# Altium footprint library footprints.PcbLib: 21 footprints (part 1 of 2)
Each footprint in its own frame and in the unit in brackets; x right, y up, seen from the top. Pads: shape width x height; smd on the part's side, far side on the other; paste and mask are expansions set on the pad; w line width, h text height; cw(c..) or ccw(c..) is an arc to the next point about the centre after c.
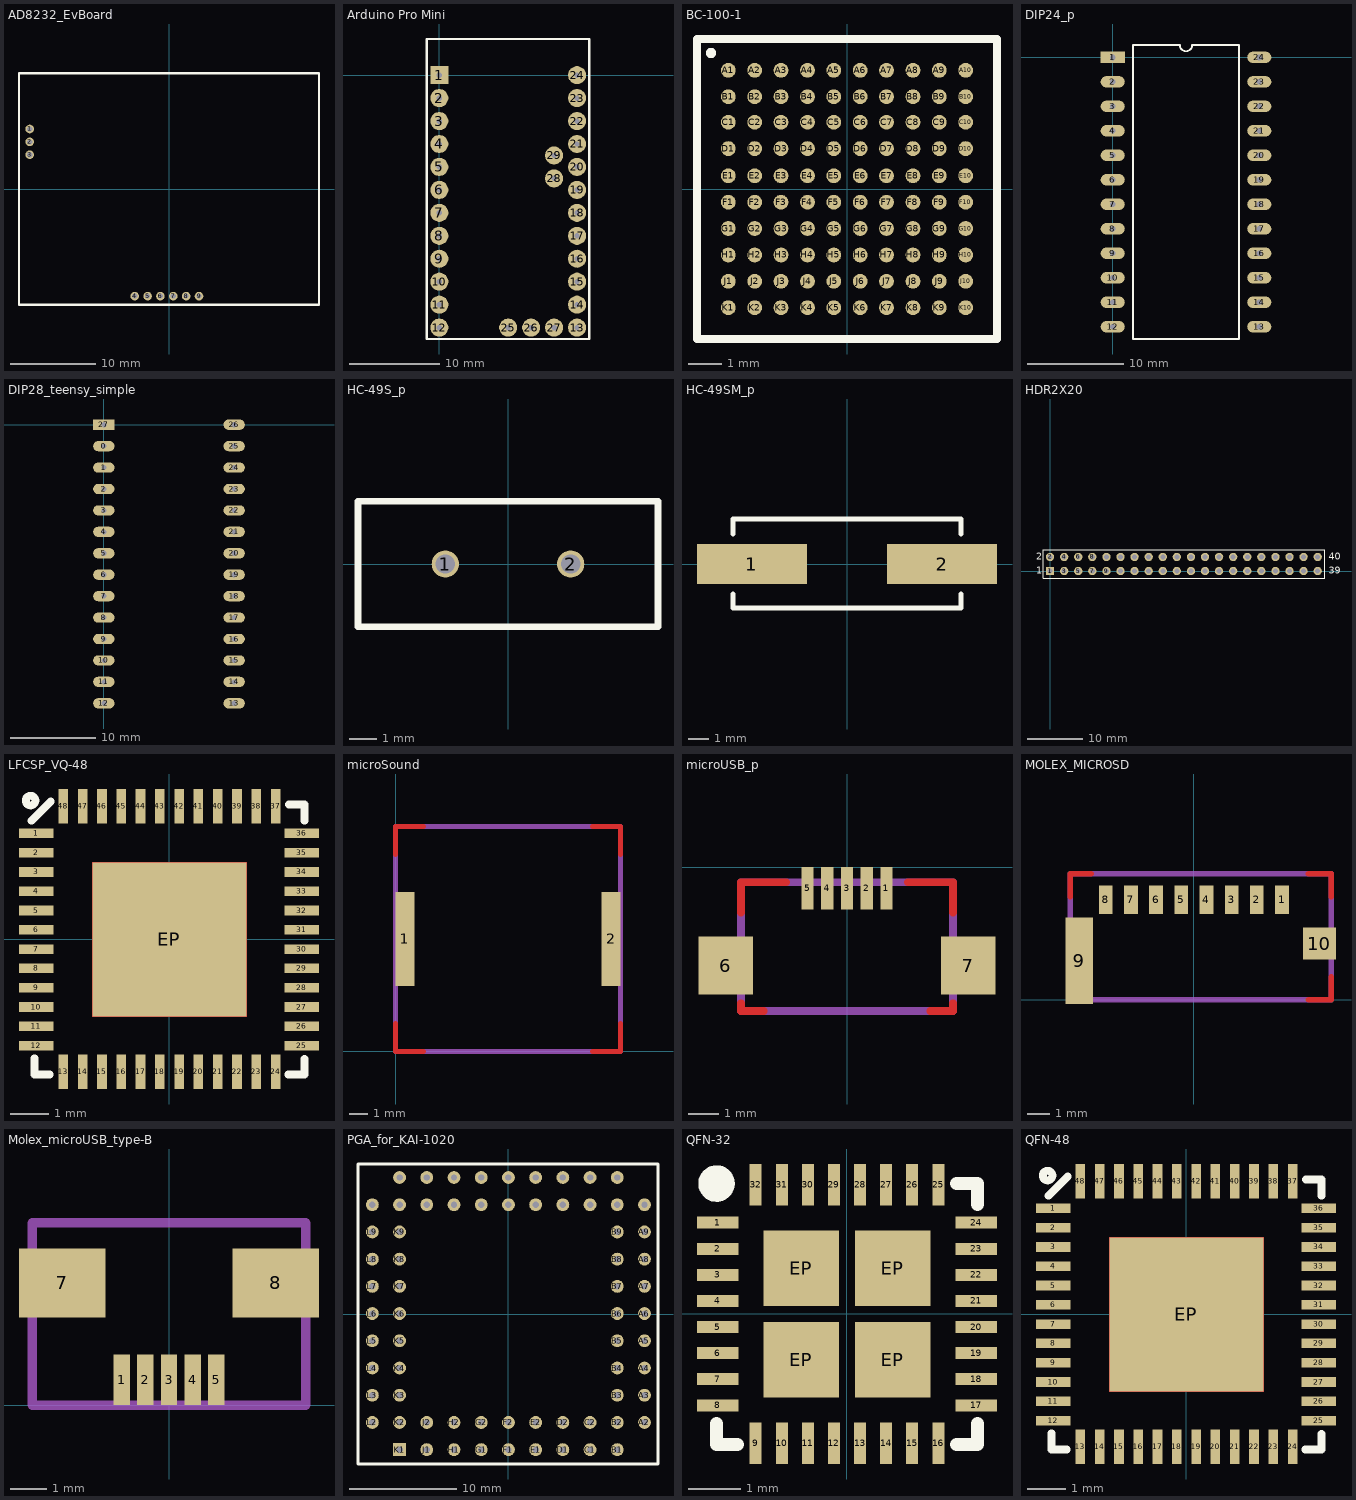
[diagram p0: the footprints below, top view; thin cyan lines are the x and y axes]

## AD8232_EvBoard [mm]
pads (9):
  round 1 hole 0.6: 1(-16.25,7) 2(-16.25,5.5) 3(-16.25,4) 4(-4,-12.5) 5(-2.5,-12.5) 6(-1,-12.5) 7(0.5,-12.5) 8(2,-12.5) 9(3.5,-12.5)
Top Overlay:
  lines w0.254: -17.5,-13.5 -17.5,13.5 17.5,13.5 17.5,-13.5 -17.5,-13.5
3D body: height 2, standoff 1, extent -17.5,-13.5 17.5,13.5

## Arduino Pro Mini [mm]
pads (29):
  rect 2x2 hole 0.6: 1(0,0)
  round 2 hole 0.6: 2(0,-2.54) 3(0,-5.08) 4(0,-7.62) 5(0,-10.16) 6(0,-12.7) 7(0,-15.24) 8(0,-17.78) 9(0,-20.32) 10(0,-22.86) 11(0,-25.4) 12(0,-27.94) 13(15.24,-27.94) 14(15.24,-25.4) 15(15.24,-22.86) 16(15.24,-20.32) 17(15.24,-17.78) 18(15.24,-15.24) 19(15.24,-12.7) 20(15.24,-10.16) 21(15.24,-7.62) 22(15.24,-5.08) 23(15.24,-2.54) 24(15.24,0) 25(7.62,-27.94) 26(10.16,-27.94) 27(12.7,-27.94) 28(12.7,-11.43) 29(12.7,-8.89)
Top Overlay:
  lines w0.254: 15.2,0.04 15.24,0 ; -1.4,-29.2 16.6,-29.2 16.6,4 -1.4,4 -1.4,-29.2

## BC-100-1 [mm] "9.1x9.1mm 0.65mm"
height 0.65
pads (100):
  round 0.45 smd: A1(-3.6,3.6) A2(-2.8,3.6) A3(-2,3.6) A4(-1.2,3.6) A5(-0.4,3.6) A6(0.4,3.6) A7(1.2,3.6) A8(2,3.6) A9(2.8,3.6) A10(3.6,3.6) B1(-3.6,2.8) B2(-2.8,2.8) B3(-2,2.8) B4(-1.2,2.8) B5(-0.4,2.8) B6(0.4,2.8) B7(1.2,2.8) B8(2,2.8) B9(2.8,2.8) B10(3.6,2.8) C1(-3.6,2.025) C2(-2.8,2.025) C3(-2,2.025) C4(-1.2,2.025) C5(-0.4,2.025) C6(0.4,2.025) C7(1.2,2.025) C8(2,2.025) C9(2.8,2.025) C10(3.6,2.025) D1(-3.6,1.225) D2(-2.8,1.225) D3(-2,1.225) D4(-1.2,1.225) D5(-0.4,1.225) D6(0.4,1.225) D7(1.2,1.225) D8(2,1.225) D9(2.8,1.225) D10(3.6,1.225) E1(-3.6,0.4) E2(-2.8,0.4) E3(-2,0.4) E4(-1.2,0.4) E5(-0.4,0.4) E6(0.4,0.4) E7(1.2,0.4) E8(2,0.4) E9(2.8,0.4) E10(3.6,0.4) F1(-3.6,-0.4) F2(-2.8,-0.4) F3(-2,-0.4) F4(-1.2,-0.4) F5(-0.4,-0.4) F6(0.4,-0.4) F7(1.2,-0.4) F8(2,-0.4) F9(2.8,-0.4) F10(3.6,-0.4) G1(-3.6,-1.2) G2(-2.8,-1.2) G3(-2,-1.2) G4(-1.2,-1.2) G5(-0.4,-1.2) G6(0.4,-1.2) G7(1.2,-1.2) G8(2,-1.2) G9(2.8,-1.2) G10(3.6,-1.2) H1(-3.6,-2) H2(-2.8,-2) H3(-2,-2) H4(-1.2,-2) H5(-0.4,-2) H6(0.4,-2) H7(1.2,-2) H8(2,-2) H9(2.8,-2) H10(3.6,-2) J1(-3.6,-2.8) J2(-2.8,-2.8) J3(-2,-2.8) J4(-1.2,-2.8) J5(-0.4,-2.8) J6(0.4,-2.8) J7(1.2,-2.8) J8(2,-2.8) J9(2.8,-2.8) J10(3.6,-2.8) K1(-3.6,-3.6) K2(-2.8,-3.6) K3(-2,-3.6) K4(-1.2,-3.6) K5(-0.4,-3.6) K6(0.4,-3.6) K7(1.2,-3.6) K8(2,-3.6) K9(2.8,-3.6) K10(3.6,-3.6)
Top Overlay:
  circle w0.2: c-4.125,4.125 r0.056
  lines w0.254: -4.55,-4.55 -4.55,4.55 4.55,4.55 4.55,-4.55 -4.55,-4.55
3D body: height 0.8, standoff 0, extent -4.55,-4.55 4.55,4.55

## DIP24_p [mm]
pads (24):
  rect 2.5x1.2 hole 0.6: 1(0,0)
  oval 2.5x1.2 hole 0.6: 2(0,-2.54) 3(0,-5.08) 4(0,-7.62) 5(0,-10.16) 6(0,-12.7) 7(0,-15.24) 8(0,-17.78) 9(0,-20.32) 10(0,-22.86) 11(0,-25.4) 12(0,-27.94) 13(15.2,-27.94) 14(15.2,-25.4) 15(15.2,-22.86) 16(15.2,-20.32) 17(15.2,-17.78) 18(15.2,-15.24) 19(15.2,-12.7) 20(15.2,-10.16) 21(15.2,-7.62) 22(15.2,-5.08) 23(15.2,-2.54) 24(15.2,0)
Top Overlay:
  lines w0.2: 2.085,-29.21 13.115,-29.21 13.115,1.27 8.235,1.27 cw(c7.6,1.27) 6.965,1.27 2.085,1.27 2.085,-29.21

## DIP28_teensy_simple [mm]
pads (28):
  oval 2.5x1.2 hole 0.6: 0(0,-2.5) 1(0,-5) 2(0,-7.5) 3(0,-10) 4(0,-12.5) 5(0,-15) 6(0,-17.5) 7(0,-20) 8(0,-22.5) 9(0,-25) 10(0,-27.5) 11(0,-30) 12(0,-32.5) 13(15.2,-32.5) 14(15.2,-30) 15(15.2,-27.5) 16(15.2,-25) 17(15.2,-22.5) 18(15.2,-20) 19(15.2,-17.5) 20(15.2,-15) 21(15.2,-12.5) 22(15.2,-10) 23(15.2,-7.5) 24(15.2,-5) 25(15.2,-2.5) 26(15.2,0)
  rect 2.5x1.2 hole 0.6: 27(0,0)
3D body: height 2, standoff 1, extent -0.75,-33.75 15.75,1.25

## HC-49S_p [mm]
height 4.2
pads (2):
  round 1 hole 0.7: 1(-2.3,0) 2(2.3,0)
Top Overlay:
  lines w0.254: -5.5,-2.3 -5.5,2.3 0,2.3 5.5,2.3 5.5,-2.3 0,-2.3 -5.5,-2.3

## HC-49SM_p [mm]
height 5
pads (2):
  rect 5.5x2 smd: 1(-4.75,0) 2(4.75,0)
Top Overlay:
  lines w0.254: -5.7,-1.5 -5.7,-2.2 5.7,-2.2 5.7,-1.5 ; -5.7,1.5 -5.7,2.25 5.7,2.25 5.7,1.5
3D body "smdcrystal.STEP": height 3.85, standoff 0, extent -6.79,-2.375 6.79,2.425

## HDR2X20 [mm] "Connector; Header; 20x2 Position"
pads (40):
  rect 1.5x1.5 hole 0.9: 1(0,0)
  round 1.5 hole 0.9: 2(0,2.54) 3(2.54,0) 4(2.54,2.54) 5(5.08,0) 6(5.08,2.54) 7(7.62,0) 8(7.62,2.54) 9(10.16,0) 10(10.16,2.54) 11(12.7,0) 12(12.7,2.54) 13(15.24,0) 14(15.24,2.54) 15(17.78,0) 16(17.78,2.54) 17(20.32,0) 18(20.32,2.54) 19(22.86,0) 20(22.86,2.54) 21(25.4,0) 22(25.4,2.54) 23(27.94,0) 24(27.94,2.54) 25(30.48,0) 26(30.48,2.54) 27(33.02,0) 28(33.02,2.54) 29(35.56,0) 30(35.56,2.54) 31(38.1,0) 32(38.1,2.54) 33(40.64,0) 34(40.64,2.54) 35(43.18,0) 36(43.18,2.54) 37(45.72,0) 38(45.72,2.54) 39(48.26,0) 40(48.26,2.54)
Top Overlay:
  lines w0.2: -1.27,-1.27 49.53,-1.27 49.53,3.81 -1.27,3.81 -1.27,-1.27
  text "1" at -2.54,-0.508 h1.27
  text "2" at -2.54,2.032 h1.27
  text "40" at 50.292,2.032 h1.27
  text "39" at 50.292,-0.508 h1.27

## LFCSP_VQ-48 [mm]
height 1
pads (49):
  rect 0.9x0.25 smd: 1(-3.45,2.75) 2(-3.45,2.25) 3(-3.45,1.75) 4(-3.45,1.25) 5(-3.45,0.75) 6(-3.45,0.25) 7(-3.45,-0.25) 8(-3.45,-0.75) 9(-3.45,-1.25) 10(-3.45,-1.75) 11(-3.45,-2.25) 12(-3.45,-2.75) 25(3.425,-2.75) 26(3.425,-2.25) 27(3.425,-1.75) 28(3.425,-1.25) 29(3.425,-0.75) 30(3.425,-0.25) 31(3.425,0.25) 32(3.425,0.75) 33(3.425,1.25) 34(3.425,1.75) 35(3.425,2.25) 36(3.425,2.75)
  rect 0.25x0.9 smd: 13(-2.75,-3.425) 14(-2.25,-3.425) 15(-1.75,-3.425) 16(-1.25,-3.425) 17(-0.75,-3.425) 18(-0.25,-3.425) 19(0.25,-3.425) 20(0.75,-3.425) 21(1.25,-3.425) 22(1.75,-3.425) 23(2.25,-3.425) 24(2.75,-3.425) 37(2.75,3.45) 38(2.25,3.45) 39(1.75,3.45) 40(1.25,3.45) 41(0.75,3.45) 42(0.25,3.45) 43(-0.25,3.45) 44(-0.75,3.45) 45(-1.25,3.45) 46(-1.75,3.45) 47(-2.25,3.45) 48(-2.75,3.45)
  rect 4x4 smd paste+0 mask-2: EP(0,0)
Top Layer:
  region: -2,2 -2,-2 2,-2 2,2
Top Overlay:
  circle w0.2: c-3.6,3.6 r0.125
  lines w0.2: -3.575,3.075 -3.075,3.575 ; -3.5,-3.075 -3.5,-3.5 -3.1,-3.5 ; 3.075,-3.5 3.5,-3.5 3.5,-3.1 ; 3.1,3.5 3.5,3.5 3.5,3.075
Top Solder:
  region: 2.16,-2.16 2.16,-1.23 1.23,-1.23 1.23,-2.16
  region: 1.03,-2.16 1.03,-1.23 0.1,-1.23 0.1,-2.16
  region: -0.1,-2.16 -0.1,-1.23 -1.03,-1.23 -1.03,-2.16
  region: -1.23,-2.16 -1.23,-1.23 -2.16,-1.23 -2.16,-2.16
  region: 2.16,-1.03 2.16,-0.1 1.23,-0.1 1.23,-1.03
  region: 1.03,-1.03 1.03,-0.1 0.1,-0.1 0.1,-1.03
  region: -0.1,-1.03 -0.1,-0.1 -1.03,-0.1 -1.03,-1.03
  region: -1.23,-1.03 -1.23,-0.1 -2.16,-0.1 -2.16,-1.03
  region: 2.16,0.1 2.16,1.03 1.23,1.03 1.23,0.1
  region: 1.03,0.1 1.03,1.03 0.1,1.03 0.1,0.1
  region: -0.1,0.1 -0.1,1.03 -1.03,1.03 -1.03,0.1
  region: -1.23,0.1 -1.23,1.03 -2.16,1.03 -2.16,0.1
  region: 2.16,1.23 2.16,2.16 1.23,2.16 1.23,1.23
  region: 1.03,1.23 1.03,2.16 0.1,2.16 0.1,1.23
  region: -0.1,1.23 -0.1,2.16 -1.03,2.16 -1.03,1.23
  region: -1.23,2.16 -2.16,2.16 -2.16,1.23 -1.23,1.23
3D body "User Library-QFN48_7x7.STEP": height 0.78, standoff -0.02, extent -3.5,-3.51 3.52,3.51

## microSound [mm]
height 3
pads (2):
  rect 1x5 smd paste+0 mask+0: 1(0.5,6) 2(11.5,6)
Top Layer:
  lines w0.254: 0,1.5 0,0 1.5,0 ; 0,10.5 0,12 1.5,12 ; 10.5,0 12,0 12,1.5 ; 10.5,12 12,12 12,10.5
Mechanical 1:
  lines w0.254: 0,0 12,0 12,12 0,12 0,0

## microUSB_p [mm]
pads (7):
  rect 0.4x1.4 smd paste+0.02 mask+0.02: 1(1.3,-0.7) 2(0.65,-0.7) 3(0,-0.7) 4(-0.65,-0.7) 5(-1.3,-0.7)
  rect 1.8x1.9 smd paste+0.02 mask+0.02: 6(-4,-3.25) 7(4,-3.25)
Top Layer:
  lines w0.254: -3.5,-4.5 -3.5,-4.75 -2.75,-4.75 ; -3.5,-1.5 -3.5,-0.5 -2,-0.5 ; 2,-0.5 3.5,-0.5 3.5,-1.5 ; 2.75,-4.75 3.5,-4.75 3.5,-4.5
Mechanical 1:
  lines w0.254: -3.5,-4.75 3.5,-4.75 3.5,-0.5 -3.5,-0.5 -3.5,-4.75

## MOLEX_MICROSD [mm]
pads (10):
  rect 0.6x1.25 smd paste+0 mask+0: 1(3.85,4.37) 2(2.75,4.37) 3(1.65,4.37) 4(0.55,4.37) 5(-0.55,4.37) 6(-1.65,4.37) 7(-2.75,4.37) 8(-3.85,4.37)
  rect 1.2x3.79 smd paste+0 mask+0: 9(-5,1.7)
  rect 1.45x1.4 smd paste+0 mask+0: 10(5.48,2.45)
Top Layer:
  lines w0.254: -5.4,4.5 -5.4,5.5 -4.5,5.5 ; 5,0 6,0 6,1 ; 5,5.5 6,5.5 6,4.5
Mechanical 1:
  lines w0.254: -5.4,0 -5.4,5.5 6,5.5 6,0 0,0 -5.4,0

## Molex_microUSB_type-B [mm]
pads (7):
  rect 0.45x1.38 smd paste+0 mask+0: 1(-1.3,0.7) 2(-0.65,0.7) 3(0,0.7) 4(0.65,0.7) 5(1.3,0.7)
  rect 2.375x1.9 smd paste+0 mask+0: 7(-2.925,3.35) 8(2.925,3.35)
Mechanical 1:
  lines w0.254: -3.75,0 -3.75,5 3.75,5 3.75,0 -3.75,0

## PGA_for_KAI-1020 [mm]
pads (68):
  round 1.2 hole 0.6: A2(12.74,-10.12) A3(12.74,-7.58) A4(12.74,-5.04) A5(12.74,-2.5) A6(12.74,0.04) A7(12.74,2.58) A8(12.74,5.12) A9(12.74,7.66) A10(12.74,10.2) B1(10.2,-12.66) B2(10.2,-10.12) B3(10.2,-7.58) B4(10.2,-5.04) B5(10.2,-2.5) B6(10.2,0.04) B7(10.2,2.58) B8(10.2,5.12) B9(10.2,7.66) B10(10.2,10.2) B11(10.2,12.74) C1(7.66,-12.66) C2(7.66,-10.12) C10(7.66,10.2) C11(7.66,12.74) D1(5.12,-12.66) D2(5.12,-10.12) D10(5.12,10.2) D11(5.12,12.74) E1(2.58,-12.66) E2(2.58,-10.12) E10(2.58,10.2) E11(2.58,12.74) F1(0.04,-12.66) F2(0.04,-10.12) F10(0.04,10.2) F11(0.04,12.74) G1(-2.5,-12.66) G2(-2.5,-10.12) G10(-2.5,10.2) G11(-2.5,12.74) H1(-5.04,-12.66) H2(-5.04,-10.12) H10(-5.04,10.2) H11(-5.04,12.74) J1(-7.58,-12.66) J2(-7.58,-10.12) J10(-7.58,10.2) J11(-7.58,12.74) K2(-10.12,-10.12) K3(-10.12,-7.58) K4(-10.12,-5.04) K5(-10.12,-2.5) K6(-10.12,0.04) K7(-10.12,2.58) K8(-10.12,5.12) K9(-10.12,7.66) K10(-10.12,10.2) K11(-10.12,12.74) L2(-12.66,-10.12) L3(-12.66,-7.58) L4(-12.66,-5.04) L5(-12.66,-2.5) L6(-12.66,0.04) L7(-12.66,2.58) L8(-12.66,5.12) L9(-12.66,7.66) L10(-12.66,10.2)
  rect 1.2x1.2 hole 0.6: K1(-10.12,-12.66)
Top Overlay:
  lines w0.254: -14,-14 14,-14 14,14 -14,14 -14,-14
3D body: height 3, standoff 1, extent -8.9,-8.9 8.9,8.9
3D body: height 2.54, standoff 0, extent -14,-14 14,14
3D body: height 0, standoff -2.54, extent -10.345,12.515 -9.897,12.964
3D body: height 0, standoff -2.54, extent -7.805,12.515 -7.357,12.964
3D body: height 0, standoff -2.54, extent -7.805,9.975 -7.357,10.424
3D body: height 0, standoff -2.54, extent -5.265,9.975 -4.817,10.424
3D body: height 0, standoff -2.54, extent -5.265,12.515 -4.817,12.964
3D body: height 0, standoff -2.54, extent -10.345,9.975 -9.897,10.424
3D body: height 0, standoff -2.54, extent -12.885,9.975 -12.437,10.424
3D body: height 0, standoff -2.54, extent -2.725,9.975 -2.277,10.424
3D body: height 0, standoff -2.54, extent -2.725,12.515 -2.277,12.964
3D body: height 0, standoff -2.54, extent -0.185,9.975 0.263,10.424
3D body: height 0, standoff -2.54, extent -0.185,12.515 0.263,12.964
3D body: height 0, standoff -2.54, extent 2.355,12.515 2.803,12.964
3D body: height 0, standoff -2.54, extent 2.355,9.975 2.803,10.424
3D body: height 0, standoff -2.54, extent 4.895,9.975 5.343,10.424
3D body: height 0, standoff -2.54, extent 4.895,12.515 5.343,12.964
3D body: height 0, standoff -2.54, extent 7.435,12.515 7.883,12.964
3D body: height 0, standoff -2.54, extent 7.435,9.975 7.883,10.424
3D body: height 0, standoff -2.54, extent 9.975,12.515 10.423,12.964
3D body: height 0, standoff -2.54, extent 9.975,9.975 10.423,10.424
3D body: height 0, standoff -2.54, extent 12.515,9.975 12.963,10.424
3D body: height 0, standoff -2.54, extent 12.515,7.435 12.963,7.885
3D body: height 0, standoff -2.54, extent 9.975,7.435 10.423,7.884
3D body: height 0, standoff -2.54, extent 9.975,4.895 10.423,5.345
3D body: height 0, standoff -2.54, extent 12.515,4.895 12.963,5.345
3D body: height 0, standoff -2.54, extent 12.515,2.355 12.963,2.805
3D body: height 0, standoff -2.54, extent 9.975,2.355 10.423,2.804
3D body: height 0, standoff -2.54, extent 9.975,-0.185 10.423,0.264
3D body: height 0, standoff -2.54, extent 12.515,-0.185 12.963,0.264
3D body: height 0, standoff -2.54, extent -10.345,7.435 -9.897,7.884
3D body: height 0, standoff -2.54, extent -12.885,7.435 -12.437,7.884
3D body: height 0, standoff -2.54, extent -12.885,4.895 -12.437,5.344
3D body: height 0, standoff -2.54, extent -10.345,4.895 -9.897,5.344
3D body: height 0, standoff -2.54, extent -10.345,2.355 -9.897,2.804
3D body: height 0, standoff -2.54, extent -12.885,2.355 -12.437,2.804
3D body: height 0, standoff -2.54, extent -10.345,-0.185 -9.897,0.264
3D body: height 0, standoff -2.54, extent -12.885,-0.185 -12.437,0.264
3D body: height 0, standoff -2.54, extent -12.885,-2.725 -12.437,-2.276
3D body: height 0, standoff -2.54, extent -10.345,-2.725 -9.897,-2.276
3D body: height 0, standoff -2.54, extent -10.345,-5.265 -9.897,-4.816
3D body: height 0, standoff -2.54, extent -12.885,-5.265 -12.437,-4.816
3D body: height 0, standoff -2.54, extent -10.345,-7.805 -9.897,-7.356
3D body: height 0, standoff -2.54, extent -12.885,-7.805 -12.437,-7.356
3D body: height 0, standoff -2.54, extent -12.885,-10.345 -12.437,-9.896
3D body: height 0, standoff -2.54, extent -10.345,-10.345 -9.897,-9.895
3D body: height 0, standoff -2.54, extent -10.345,-12.885 -9.897,-12.435
3D body: height 0, standoff -2.54, extent -7.805,-12.885 -7.357,-12.435
3D body: height 0, standoff -2.54, extent -7.805,-10.345 -7.357,-9.895
3D body: height 0, standoff -2.54, extent -5.265,-10.345 -4.817,-9.895
3D body: height 0, standoff -2.54, extent -5.265,-12.885 -4.817,-12.435
3D body: height 0, standoff -2.54, extent -2.725,-12.885 -2.277,-12.435
3D body: height 0, standoff -2.54, extent -2.725,-10.345 -2.277,-9.895
3D body: height 0, standoff -2.54, extent -0.185,-10.345 0.263,-9.896
3D body: height 0, standoff -2.54, extent -0.185,-12.885 0.263,-12.435
3D body: height 0, standoff -2.54, extent 2.355,-10.345 2.803,-9.895
3D body: height 0, standoff -2.54, extent 2.355,-12.885 2.803,-12.435
3D body: height 0, standoff -2.54, extent 4.895,-12.885 5.343,-12.435
3D body: height 0, standoff -2.54, extent 4.895,-10.345 5.343,-9.895
3D body: height 0, standoff -2.54, extent 7.435,-10.345 7.883,-9.895
3D body: height 0, standoff -2.54, extent 9.975,-10.345 10.423,-9.895
3D body: height 0, standoff -2.54, extent 12.515,-2.725 12.963,-2.275
3D body: height 0, standoff -2.54, extent 9.975,-2.725 10.423,-2.276
3D body: height 0, standoff -2.54, extent 9.975,-5.265 10.423,-4.816
3D body: height 0, standoff -2.54, extent 12.515,-5.265 12.963,-4.816
3D body: height 0, standoff -2.54, extent 9.975,-7.805 10.423,-7.356
3D body: height 0, standoff -2.54, extent 12.515,-7.805 12.963,-7.356
3D body: height 0, standoff -2.54, extent 12.515,-10.345 12.963,-9.895
3D body: height 0, standoff -2.54, extent 9.975,-12.885 10.423,-12.435
3D body: height 0, standoff -2.54, extent 7.435,-12.885 7.883,-12.435

## QFN-32 [mm]
pads (36):
  rect 0.8x0.23 smd: 1(-2.475,1.75) 2(-2.475,1.25) 3(-2.475,0.75) 4(-2.475,0.25) 5(-2.475,-0.25) 6(-2.475,-0.75) 7(-2.475,-1.25) 8(-2.475,-1.75) 17(2.475,-1.75) 18(2.475,-1.25) 19(2.475,-0.75) 20(2.475,-0.25) 21(2.475,0.25) 22(2.475,0.75) 23(2.475,1.25) 24(2.475,1.75)
  rect 0.23x0.8 smd: 9(-1.75,-2.475) 10(-1.25,-2.475) 11(-0.75,-2.475) 12(-0.25,-2.475) 13(0.25,-2.475) 14(0.75,-2.475) 15(1.25,-2.475) 16(1.75,-2.475) 25(1.75,2.475) 26(1.25,2.475) 27(0.75,2.475) 28(0.25,2.475) 29(-0.25,2.475) 30(-0.75,2.475) 31(-1.25,2.475) 32(-1.75,2.475)
  rect 1.45x1.45 smd: EP(-0.875,-0.875) EP(-0.875,0.875) EP(0.875,-0.875) EP(0.875,0.875)
Top Overlay:
  circle w0.2: c-2.5,2.5 r0.25
  circle w0.2: c-2.5,2.5 r0.056
  lines w0.254: -2.5,-2.1 -2.5,-2.5 -2.1,-2.5 ; 2.1,-2.5 2.5,-2.5 2.5,-2.1 ; 2.1,2.5 2.5,2.5 2.5,2.1
3D body "User Library-QFN-32-5x5 - EQ.STEP": height 0.85, standoff 0, extent -2.5,-2.5 2.5,2.5

## QFN-48 [mm]
height 1
pads (49):
  rect 0.9x0.25 smd: 1(-3.45,2.75) 2(-3.45,2.25) 3(-3.45,1.75) 4(-3.45,1.25) 5(-3.45,0.75) 6(-3.45,0.25) 7(-3.45,-0.25) 8(-3.45,-0.75) 9(-3.45,-1.25) 10(-3.45,-1.75) 11(-3.45,-2.25) 12(-3.45,-2.75) 25(3.425,-2.75) 26(3.425,-2.25) 27(3.425,-1.75) 28(3.425,-1.25) 29(3.425,-0.75) 30(3.425,-0.25) 31(3.425,0.25) 32(3.425,0.75) 33(3.425,1.25) 34(3.425,1.75) 35(3.425,2.25) 36(3.425,2.75)
  rect 0.25x0.9 smd: 13(-2.75,-3.425) 14(-2.25,-3.425) 15(-1.75,-3.425) 16(-1.25,-3.425) 17(-0.75,-3.425) 18(-0.25,-3.425) 19(0.25,-3.425) 20(0.75,-3.425) 21(1.25,-3.425) 22(1.75,-3.425) 23(2.25,-3.425) 24(2.75,-3.425) 37(2.75,3.45) 38(2.25,3.45) 39(1.75,3.45) 40(1.25,3.45) 41(0.75,3.45) 42(0.25,3.45) 43(-0.25,3.45) 44(-0.75,3.45) 45(-1.25,3.45) 46(-1.75,3.45) 47(-2.25,3.45) 48(-2.75,3.45)
  rect 4x4 smd paste+0 mask-2: EP(0,0)
Top Layer:
  region: -2,2 -2,-2 2,-2 2,2
Top Overlay:
  circle w0.2: c-3.6,3.6 r0.125
  lines w0.2: -3.575,3.075 -3.075,3.575 ; -3.5,-3.075 -3.5,-3.5 -3.1,-3.5 ; 3.075,-3.5 3.5,-3.5 3.5,-3.1 ; 3.1,3.5 3.5,3.5 3.5,3.075
Top Solder:
  region: 2.16,-2.16 2.16,-1.23 1.23,-1.23 1.23,-2.16
  region: 1.03,-2.16 1.03,-1.23 0.1,-1.23 0.1,-2.16
  region: -0.1,-2.16 -0.1,-1.23 -1.03,-1.23 -1.03,-2.16
  region: -1.23,-2.16 -1.23,-1.23 -2.16,-1.23 -2.16,-2.16
  region: 2.16,-1.03 2.16,-0.1 1.23,-0.1 1.23,-1.03
  region: 1.03,-1.03 1.03,-0.1 0.1,-0.1 0.1,-1.03
  region: -0.1,-1.03 -0.1,-0.1 -1.03,-0.1 -1.03,-1.03
  region: -1.23,-1.03 -1.23,-0.1 -2.16,-0.1 -2.16,-1.03
  region: 2.16,0.1 2.16,1.03 1.23,1.03 1.23,0.1
  region: 1.03,0.1 1.03,1.03 0.1,1.03 0.1,0.1
  region: -0.1,0.1 -0.1,1.03 -1.03,1.03 -1.03,0.1
  region: -1.23,0.1 -1.23,1.03 -2.16,1.03 -2.16,0.1
  region: 2.16,1.23 2.16,2.16 1.23,2.16 1.23,1.23
  region: 1.03,1.23 1.03,2.16 0.1,2.16 0.1,1.23
  region: -0.1,1.23 -0.1,2.16 -1.03,2.16 -1.03,1.23
  region: -1.23,2.16 -2.16,2.16 -2.16,1.23 -1.23,1.23
3D body "User Library-QFN48_7x7.STEP": height 0.78, standoff -0.02, extent -3.5,-3.51 3.52,3.51